# Altium integrated library WE-PMCI_rev16a.intlib: 25 symbols
Pins are listed as number, name and electrical type; pins without a type are passive.

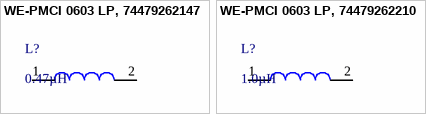
[diagram p0: symbols WE-PMCI 0603 LP, 74479262147 to WE-PMCI 0603 LP, 74479262210]

## WE-PMCI 0603 LP, 74479262147
designator L?, comment 0.47µH
WE-PMCI Power Molded Chip Inductor, L=0.47µH; partNo: 74479262147; Manufacturer: Wurth Elektronik; Inductance: 0.47µH; ComponentLink1Description: Manufacturer; ComponentLink1URL: http://www.we-online.de; Created by: Baojun Chen; Created Date: Dec.2015; ComponentLink2Description: Datasheet; ComponentLink2URL: http://katalog.we-online.de/pbs/datasheet/74479262147.pdf
footprint WE-PMCI_0603 LP
pins: 1, 2

## WE-PMCI 0603 LP, 74479262210
designator L?, comment 1.0µH
WE-PMCI Power Molded Chip Inductor, L=1.0µH; partNo: 74479262210; Manufacturer: Wurth Elektronik; Inductance: 1.0µH; ComponentLink1Description: Manufacturer; ComponentLink1URL: http://www.we-online.de; Created by: Baojun Chen; Created Date: Dec.2015; ComponentLink2Description: Datasheet; ComponentLink2URL: http://katalog.we-online.de/pbs/datasheet/74479262210.pdf
footprint WE-PMCI_0603 LP
pins: 1, 2


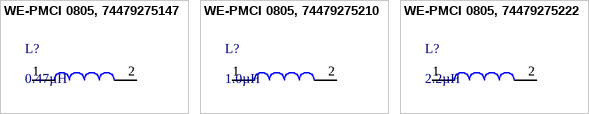
[diagram p1: symbols WE-PMCI 0805, 74479275147 to WE-PMCI 0805, 74479275222]

## WE-PMCI 0805, 74479275147
designator L?, comment 0.47µH
WE-PMCI Power Molded Chip Inductor, L=0.47µH; partNo: 74479275147; Manufacturer: Wurth Elektronik; Inductance: 0.47µH; ComponentLink1Description: Manufacturer; ComponentLink1URL: http://www.we-online.de; Created by: Baojun Chen; Created Date: Dec.2015; ComponentLink2Description: Datasheet; ComponentLink2URL: http://katalog.we-online.de/pbs/datasheet/74479275147.pdf
footprint WE-PMCI_0805
pins: 1, 2

## WE-PMCI 0805, 74479275210
designator L?, comment 1.0µH
WE-PMCI Power Molded Chip Inductor, L=1.0µH; partNo: 74479275210; Manufacturer: Wurth Elektronik; Inductance: 1.0µH; ComponentLink1Description: Manufacturer; ComponentLink1URL: http://www.we-online.de; Created by: Baojun Chen; Created Date: Dec.2015; ComponentLink2Description: Datasheet; ComponentLink2URL: http://katalog.we-online.de/pbs/datasheet/74479275210.pdf
footprint WE-PMCI_0805
pins: 1, 2

## WE-PMCI 0805, 74479275222
designator L?, comment 2.2µH
WE-PMCI Power Molded Chip Inductor, L=2.2µH; partNo: 74479275222; Manufacturer: Wurth Elektronik; Inductance: 2.2µH; ComponentLink1Description: Manufacturer; ComponentLink1URL: http://www.we-online.de; Created by: Baojun Chen; Created Date: Dec.2015; ComponentLink2Description: Datasheet; ComponentLink2URL: http://katalog.we-online.de/pbs/datasheet/74479275222.pdf
footprint WE-PMCI_0805
pins: 1, 2


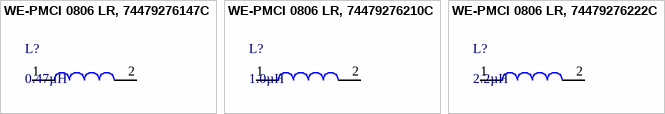
[diagram p2: symbols WE-PMCI 0806 LR, 74479276147C to WE-PMCI 0806 LR, 74479276222C]

## WE-PMCI 0806 LR, 74479276147C
designator L?, comment 0.47µH
WE-PMCI Power Molded Chip Inductor, L=0.47µH; partNo: 74479276147C; Manufacturer: Wurth Elektronik; Inductance: 0.47µH; ComponentLink1Description: Manufacturer; ComponentLink1URL: http://www.we-online.de; Created by: Baojun Chen; Created Date: Dec.2015; ComponentLink2Description: Datasheet; ComponentLink2URL: http://katalog.we-online.de/pbs/datasheet/74479276147C.pdf
footprint WE-PMCI_0806 LR
pins: 1, 2

## WE-PMCI 0806 LR, 74479276210C
designator L?, comment 1.0µH
WE-PMCI Power Molded Chip Inductor, L=1.0µH; partNo: 74479276210C; Manufacturer: Wurth Elektronik; Inductance: 1.0µH; ComponentLink1Description: Manufacturer; ComponentLink1URL: http://www.we-online.de; Created by: Baojun Chen; Created Date: Dec.2015; ComponentLink2Description: Datasheet; ComponentLink2URL: http://katalog.we-online.de/pbs/datasheet/74479276210C.pdf
footprint WE-PMCI_0806 LR
pins: 1, 2

## WE-PMCI 0806 LR, 74479276222C
designator L?, comment 2.2µH
WE-PMCI Power Molded Chip Inductor, L=2.2µH; partNo: 74479276222C; Manufacturer: Wurth Elektronik; Inductance: 2.2µH; ComponentLink1Description: Manufacturer; ComponentLink1URL: http://www.we-online.de; Created by: Baojun Chen; Created Date: Dec.2015; ComponentLink2Description: Datasheet; ComponentLink2URL: http://katalog.we-online.de/pbs/datasheet/74479276222C.pdf
footprint WE-PMCI_0806 LR
pins: 1, 2


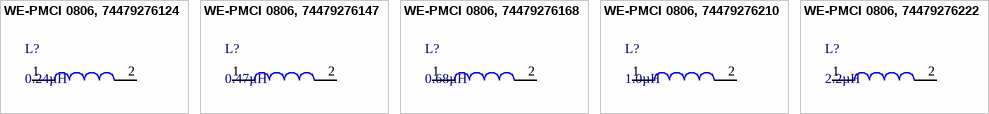
[diagram p3: symbols WE-PMCI 0806, 74479276124 to WE-PMCI 0806, 74479276222]

## WE-PMCI 0806, 74479276124
designator L?, comment 0.24µH
WE-PMCI Power Molded Chip Inductor, L=0.24µH; partNo: 74479276124; Manufacturer: Wurth Elektronik; Inductance: 0.24µH; ComponentLink1Description: Manufacturer; ComponentLink1URL: http://www.we-online.de; Created by: Baojun Chen; Created Date: Dec.2015; ComponentLink2Description: Datasheet; ComponentLink2URL: http://katalog.we-online.de/pbs/datasheet/74479276124.pdf
footprint WE-PMCI_0806
pins: 1, 2

## WE-PMCI 0806, 74479276147
designator L?, comment 0.47µH
WE-PMCI Power Molded Chip Inductor, L=0.47µH; partNo: 74479276147; Manufacturer: Wurth Elektronik; Inductance: 0.47µH; ComponentLink1Description: Manufacturer; ComponentLink1URL: http://www.we-online.de; Created by: Baojun Chen; Created Date: Dec.2015; ComponentLink2Description: Datasheet; ComponentLink2URL: http://katalog.we-online.de/pbs/datasheet/74479276147.pdf
footprint WE-PMCI_0806
pins: 1, 2

## WE-PMCI 0806, 74479276168
designator L?, comment 0.68µH
WE-PMCI Power Molded Chip Inductor, L=0.68µH; partNo: 74479276168; Manufacturer: Wurth Elektronik; Inductance: 0.68µH; ComponentLink1Description: Manufacturer; ComponentLink1URL: http://www.we-online.de; Created by: Baojun Chen; Created Date: Dec.2015; ComponentLink2Description: Datasheet; ComponentLink2URL: http://katalog.we-online.de/pbs/datasheet/74479276168.pdf
footprint WE-PMCI_0806
pins: 1, 2

## WE-PMCI 0806, 74479276210
designator L?, comment 1.0µH
WE-PMCI Power Molded Chip Inductor, L=1.0µH; partNo: 74479276210; Manufacturer: Wurth Elektronik; Inductance: 1.0µH; ComponentLink1Description: Manufacturer; ComponentLink1URL: http://www.we-online.de; Created by: Baojun Chen; Created Date: Dec.2015; ComponentLink2Description: Datasheet; ComponentLink2URL: http://katalog.we-online.de/pbs/datasheet/74479276210.pdf
footprint WE-PMCI_0806
pins: 1, 2

## WE-PMCI 0806, 74479276222
designator L?, comment 2.2µH
WE-PMCI Power Molded Chip Inductor, L=2.2µH; partNo: 74479276222; Manufacturer: Wurth Elektronik; Inductance: 2.2µH; ComponentLink1Description: Manufacturer; ComponentLink1URL: http://www.we-online.de; Created by: Baojun Chen; Created Date: Dec.2015; ComponentLink2Description: Datasheet; ComponentLink2URL: http://katalog.we-online.de/pbs/datasheet/74479276222.pdf
footprint WE-PMCI_0806
pins: 1, 2


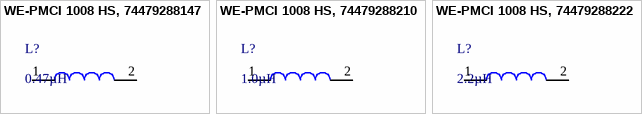
[diagram p4: symbols WE-PMCI 1008 HS, 74479288147 to WE-PMCI 1008 HS, 74479288222]

## WE-PMCI 1008 HS, 74479288147
designator L?, comment 0.47µH
WE-PMCI Power Molded Chip Inductor, L=0.47µH; partNo: 74479288147; Manufacturer: Wurth Elektronik; Inductance: 0.47µH; ComponentLink1Description: Manufacturer; ComponentLink1URL: http://www.we-online.de; Created by: Baojun Chen; Created Date: Dec.2015; ComponentLink2Description: Datasheet; ComponentLink2URL: http://katalog.we-online.de/pbs/datasheet/74479288147.pdf
footprint WE-PMCI_1008 HS
pins: 1, 2

## WE-PMCI 1008 HS, 74479288210
designator L?, comment 1.0µH
WE-PMCI Power Molded Chip Inductor, L=1.0µH; partNo: 74479288210; Manufacturer: Wurth Elektronik; Inductance: 1.0µH; ComponentLink1Description: Manufacturer; ComponentLink1URL: http://www.we-online.de; Created by: Baojun Chen; Created Date: Dec.2015; ComponentLink2Description: Datasheet; ComponentLink2URL: http://katalog.we-online.de/pbs/datasheet/74479288210.pdf
footprint WE-PMCI_1008 HS
pins: 1, 2

## WE-PMCI 1008 HS, 74479288222
designator L?, comment 2.2µH
WE-PMCI Power Molded Chip Inductor, L=2.2µH; partNo: 74479288222; Manufacturer: Wurth Elektronik; Inductance: 2.2µH; ComponentLink1Description: Manufacturer; ComponentLink1URL: http://www.we-online.de; Created by: Baojun Chen; Created Date: Dec.2015; ComponentLink2Description: Datasheet; ComponentLink2URL: http://katalog.we-online.de/pbs/datasheet/74479288222.pdf
footprint WE-PMCI_1008 HS
pins: 1, 2


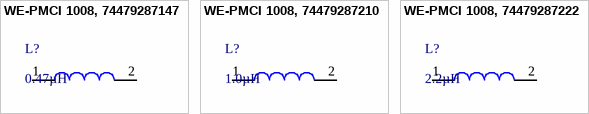
[diagram p5: symbols WE-PMCI 1008, 74479287147 to WE-PMCI 1008, 74479287222]

## WE-PMCI 1008, 74479287147
designator L?, comment 0.47µH
WE-PMCI Power Molded Chip Inductor, L=0.47µH; partNo: 74479287147; Manufacturer: Wurth Elektronik; Inductance: 0.47µH; ComponentLink1Description: Manufacturer; ComponentLink1URL: http://www.we-online.de; Created by: Baojun Chen; Created Date: Dec.2015; ComponentLink2Description: Datasheet; ComponentLink2URL: http://katalog.we-online.de/pbs/datasheet/74479287147.pdf
footprint WE-PMCI_1008
pins: 1, 2

## WE-PMCI 1008, 74479287210
designator L?, comment 1.0µH
WE-PMCI Power Molded Chip Inductor, L=1.0µH; partNo: 74479287210; Manufacturer: Wurth Elektronik; Inductance: 1.0µH; ComponentLink1Description: Manufacturer; ComponentLink1URL: http://www.we-online.de; Created by: Baojun Chen; Created Date: Dec.2015; ComponentLink2Description: Datasheet; ComponentLink2URL: http://katalog.we-online.de/pbs/datasheet/74479287210.pdf
footprint WE-PMCI_1008
pins: 1, 2

## WE-PMCI 1008, 74479287222
designator L?, comment 2.2µH
WE-PMCI Power Molded Chip Inductor, L=2.2µH; partNo: 74479287222; Manufacturer: Wurth Elektronik; Inductance: 2.2µH; ComponentLink1Description: Manufacturer; ComponentLink1URL: http://www.we-online.de; Created by: Baojun Chen; Created Date: Dec.2015; ComponentLink2Description: Datasheet; ComponentLink2URL: http://katalog.we-online.de/pbs/datasheet/74479287222.pdf
footprint WE-PMCI_1008
pins: 1, 2


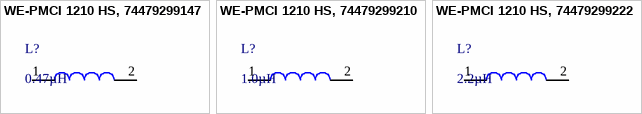
[diagram p6: symbols WE-PMCI 1210 HS, 74479299147 to WE-PMCI 1210 HS, 74479299222]

## WE-PMCI 1210 HS, 74479299147
designator L?, comment 0.47µH
WE-PMCI Power Molded Chip Inductor, L=0.47µH; partNo: 74479299147; Manufacturer: Wurth Elektronik; Inductance: 0.47µH; ComponentLink1Description: Manufacturer; ComponentLink1URL: http://www.we-online.de; Created by: Baojun Chen; Created Date: Dec.2015; ComponentLink2Description: Datasheet; ComponentLink2URL: http://katalog.we-online.de/pbs/datasheet/74479299147.pdf
footprint WE-PMCI_1210 HS
pins: 1, 2

## WE-PMCI 1210 HS, 74479299210
designator L?, comment 1.0µH
WE-PMCI Power Molded Chip Inductor, L=1.0µH; partNo: 74479299210; Manufacturer: Wurth Elektronik; Inductance: 1.0µH; ComponentLink1Description: Manufacturer; ComponentLink1URL: http://www.we-online.de; Created by: Baojun Chen; Created Date: Dec.2015; ComponentLink2Description: Datasheet; ComponentLink2URL: http://katalog.we-online.de/pbs/datasheet/74479299210.pdf
footprint WE-PMCI_1210 HS
pins: 1, 2

## WE-PMCI 1210 HS, 74479299222
designator L?, comment 2.2µH
WE-PMCI Power Molded Chip Inductor, L=2.2µH; partNo: 74479299222; Manufacturer: Wurth Elektronik; Inductance: 2.2µH; ComponentLink1Description: Manufacturer; ComponentLink1URL: http://www.we-online.de; Created by: Baojun Chen; Created Date: Dec.2015; ComponentLink2Description: Datasheet; ComponentLink2URL: http://katalog.we-online.de/pbs/datasheet/74479299222.pdf
footprint WE-PMCI_1210 HS
pins: 1, 2


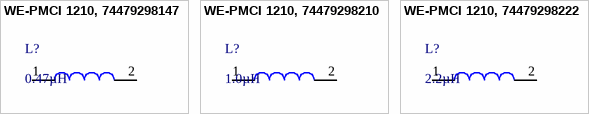
[diagram p7: symbols WE-PMCI 1210, 74479298147 to WE-PMCI 1210, 74479298222]

## WE-PMCI 1210, 74479298147
designator L?, comment 0.47µH
WE-PMCI Power Molded Chip Inductor, L=0.47µH; partNo: 74479298147; Manufacturer: Wurth Elektronik; Inductance: 0.47µH; ComponentLink1Description: Manufacturer; ComponentLink1URL: http://www.we-online.de; Created by: Baojun Chen; Created Date: Dec.2015; ComponentLink2Description: Datasheet; ComponentLink2URL: http://katalog.we-online.de/pbs/datasheet/74479298147.pdf
footprint WE-PMCI_1210
pins: 1, 2

## WE-PMCI 1210, 74479298210
designator L?, comment 1.0µH
WE-PMCI Power Molded Chip Inductor, L=1.0µH; partNo: 74479298210; Manufacturer: Wurth Elektronik; Inductance: 1.0µH; ComponentLink1Description: Manufacturer; ComponentLink1URL: http://www.we-online.de; Created by: Baojun Chen; Created Date: Dec.2015; ComponentLink2Description: Datasheet; ComponentLink2URL: http://katalog.we-online.de/pbs/datasheet/74479298210.pdf
footprint WE-PMCI_1210
pins: 1, 2

## WE-PMCI 1210, 74479298222
designator L?, comment 2.2µH
WE-PMCI Power Molded Chip Inductor, L=2.2µH; partNo: 74479298222; Manufacturer: Wurth Elektronik; Inductance: 2.2µH; ComponentLink1Description: Manufacturer; ComponentLink1URL: http://www.we-online.de; Created by: Baojun Chen; Created Date: Dec.2015; ComponentLink2Description: Datasheet; ComponentLink2URL: http://katalog.we-online.de/pbs/datasheet/74479298222.pdf
footprint WE-PMCI_1210
pins: 1, 2